# EAGLE library part ADAFRUIT-OLED-128X32-SPI (library Adafruit OLED 128x32 SPI)
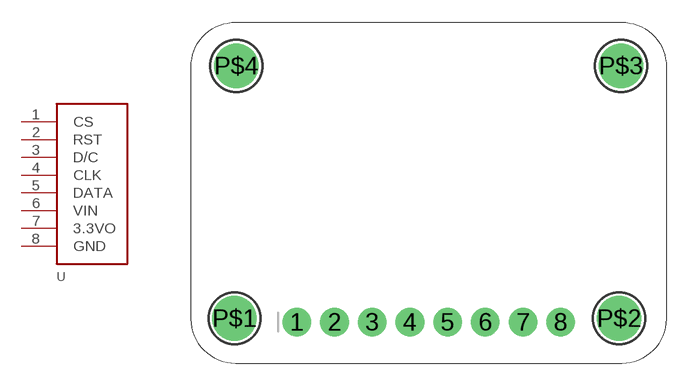
[diagram p0: symbol with the pads of ADAFRUIT-OLED-128X32-SPI; footprint ADAFRUIT-OLED-128X32-SPI]

Designator prefix U

## ADAFRUIT-OLED-128X32-SPI  [ADAFRUIT-OLED-128X32-SPI]
1  CS
2  RST
3  D/C
4  CLK
5  DATA
6  VIN  pwr
7  3.3VO  pwr
8  GND  pwr

## Footprint ADAFRUIT-OLED-128X32-SPI (pad centres in mm)
drill 1 pad 1.93: 1 7.112,2.794; 2 9.652,2.794; 3 12.192,2.794; 4 14.732,2.794; 5 17.272,2.794; 6 19.812,2.794; 7 22.352,2.794; 8 24.892,2.794
drill 2 pad 3: P$1 2.921,3.048; P$2 28.829,3.048; P$3 28.956,20.066; P$4 3.048,20.066